# EAGLE library part MOS-2N-? (library Transistor)
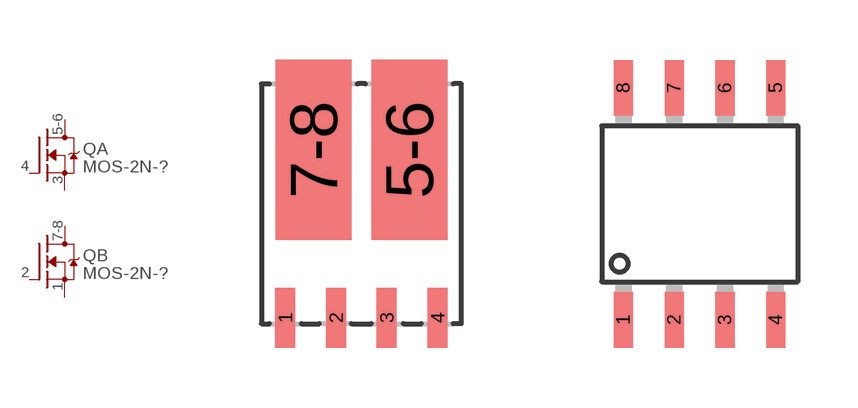
[diagram p3: symbol with the pads of POWERFLAT-5X6; footprints POWERFLAT-5X6, SOP8]

Designator prefix Q; gates A=N-MOSFET B=N-MOSFET

## MOS-2N-POWERFLAT-5X6  [POWERFLAT-5X6]
1  B:S  pas
2  B:G  pas
3  A:S  pas
4  A:G  pas
5-6  A:D  pas
7-8  B:D  pas

## MOS-2N-SOP8  [SOP8]
1  A:S  pas
2  A:G  pas
3  B:S  pas
4  B:G  pas
5  B:D  pas
6  B:D  pas
7  A:D  pas
8  A:D  pas

## MOS-2N-SC70-6  [SC70-6]
1  A:S  pas
2  A:G  pas
3  B:D  pas
4  B:S  pas
5  B:G  pas
6  A:D  pas

## Footprint POWERFLAT-5X6 (pad centres in mm)
smd 0.5 x 1.5: 1 -1.905,-2.85; 2 -0.635,-2.85; 3 0.635,-2.85; 4 1.905,-2.85
smd 1.9 x 4.5: 5-6 1.2,1.35; 7-8 -1.2,1.35

## Footprint SOP8 (pad centres in mm)
smd 0.48 x 1.4: 1 -1.905,-2.9; 2 -0.635,-2.9; 3 0.635,-2.9; 4 1.905,-2.9; 5 1.905,2.9; 6 0.635,2.9; 7 -0.635,2.9; 8 -1.905,2.9

## Footprint SC70-6 (pad centres in mm)
smd 0.3 x 0.7: 1 -0.65,-1.15; 2 0,-1.15; 3 0.65,-1.15; 4 0.65,1.15; 5 0,1.15; 6 -0.65,1.15